# Altium schematic symbol library Comparators Chip SMD.SchLib: 1 symbol
Pins are listed as number, name and electrical type; pins without a type are passive.

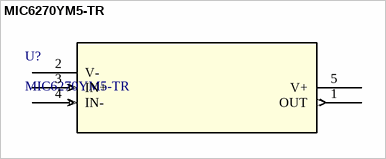
[diagram p0: symbol MIC6270YM5-TR]

## MIC6270YM5-TR
designator U?
No Description Available; Mfr_Name: Microchip; Copyright: Copyright (C) 2024 Ultra Librarian. All rights reserved.; Manufacturer_Part_Number: MIC6270YM5-TR; RefDes: RefDes; Type: DEV
footprint MIC6270
pins: 1 OUT (out), 2 V- (power), 3 IN+ (in), 4 IN- (in), 5 V+ (power)